# Altium schematic symbol library NX5P3090UK_WLCSP12.SchLib: 1 symbol
Pins are listed as number, name and electrical type; pins without a type are passive.

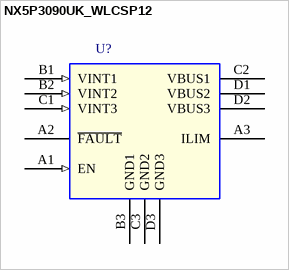
[diagram p0: symbol NX5P3090UK_WLCSP12]

## NX5P3090UK_WLCSP12
designator U?
IC USB PD TYPE C CURRENT LIMITED PWR SW 2.5-5.5V WLCSP12
pins: A1 EN (in), A2 ~{FAULT} (oc), A3 ILIM, B1 VINT1 (in), B2 VINT2 (in), B3 GND1 (power), C1 VINT3 (in), C2 VBUS1, C3 GND2 (power), D1 VBUS2, D2 VBUS3, D3 GND3 (power)